# Altium integrated library WE-TVS TVS Diode-Super Speed Series.IntLib: 3 symbols
Pins are listed as number, name and electrical type; pins without a type are passive.

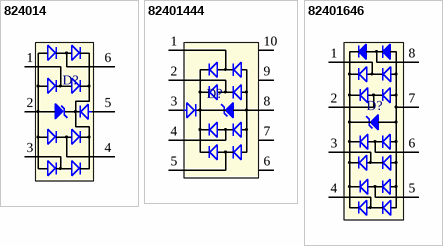
[diagram p0: symbols 824014 to 82401646]

## 824014
designator D?
TVS Diode WE-TVS-SS, VRWM=5V; PartNumber: 824014; Reverse Stand Off Voltage: 5V; PackageReference: SOT23_6L; ComponentLink1Description: Manufacturer URL; ComponentLink1URL: http://www.we-online.com; ComponentLink2Description: Datasheet; ComponentLink2URL: http://katalog.we-online.de/kataloge/eisos/media/pdf/824014.pdf
footprint SOT23_6L (SOT23_6L, 6-Leads, Body 3.60x2.9mm, Pitch 0.95mm)
pins: 1 I/O1, 2 GND, 3 I/O2, 4 I/O3, 5 VDD, 6 I/O6

## 82401444
designator D?
TVS Diode WE-TVS-SS, VRWM=5V; PartNumber: 82401444; Reverse Stand Off Voltage: 5V; PackageReference: MSOP-10L; ComponentLink1Description: Manufacturer URL; ComponentLink1URL: http://www.we-online.com; ComponentLink2Description: Datasheet; ComponentLink2URL: http://katalog.we-online.de/kataloge/eisos/media/pdf/82401444.pdf
footprint MSOP-10L (MSOP-10L, 10-Leads, Body 5x3mm, Pitch 0.5mm)
pins: 1 I/O1, 2 I/O2, 3 VDD, 4 I/O3, 5 I/O4, 6 NC, 7 NC, 8 GND, 9 NC, 10 NC

## 82401646
designator D?
TVS Diode WE-TVS-SS, VRWM=5V; PartNumber: 82401646; Reverse Stand Off Voltage: 5V; PackageReference: MSOP-8L; ComponentLink1Description: Manufacturer URL; ComponentLink1URL: http://www.we-online.com; ComponentLink2Description: Datasheet; ComponentLink2URL: http://katalog.we-online.de/kataloge/eisos/media/pdf/82401646.pdf
footprint MSOP-8L (MSOP-8L, 8-Leads, Body 5x3mm, Pitch 0.5mm)
pins: 1 I/O1, 2 I/O2, 3 I/O3, 4 I/O4, 5 I/O5, 6 I/O6, 7 GND, 8 VDD